# Altium schematic symbol library kmilo17pet-PIC16_Part2.SchLib: 1569 symbols (part 16 of 56)
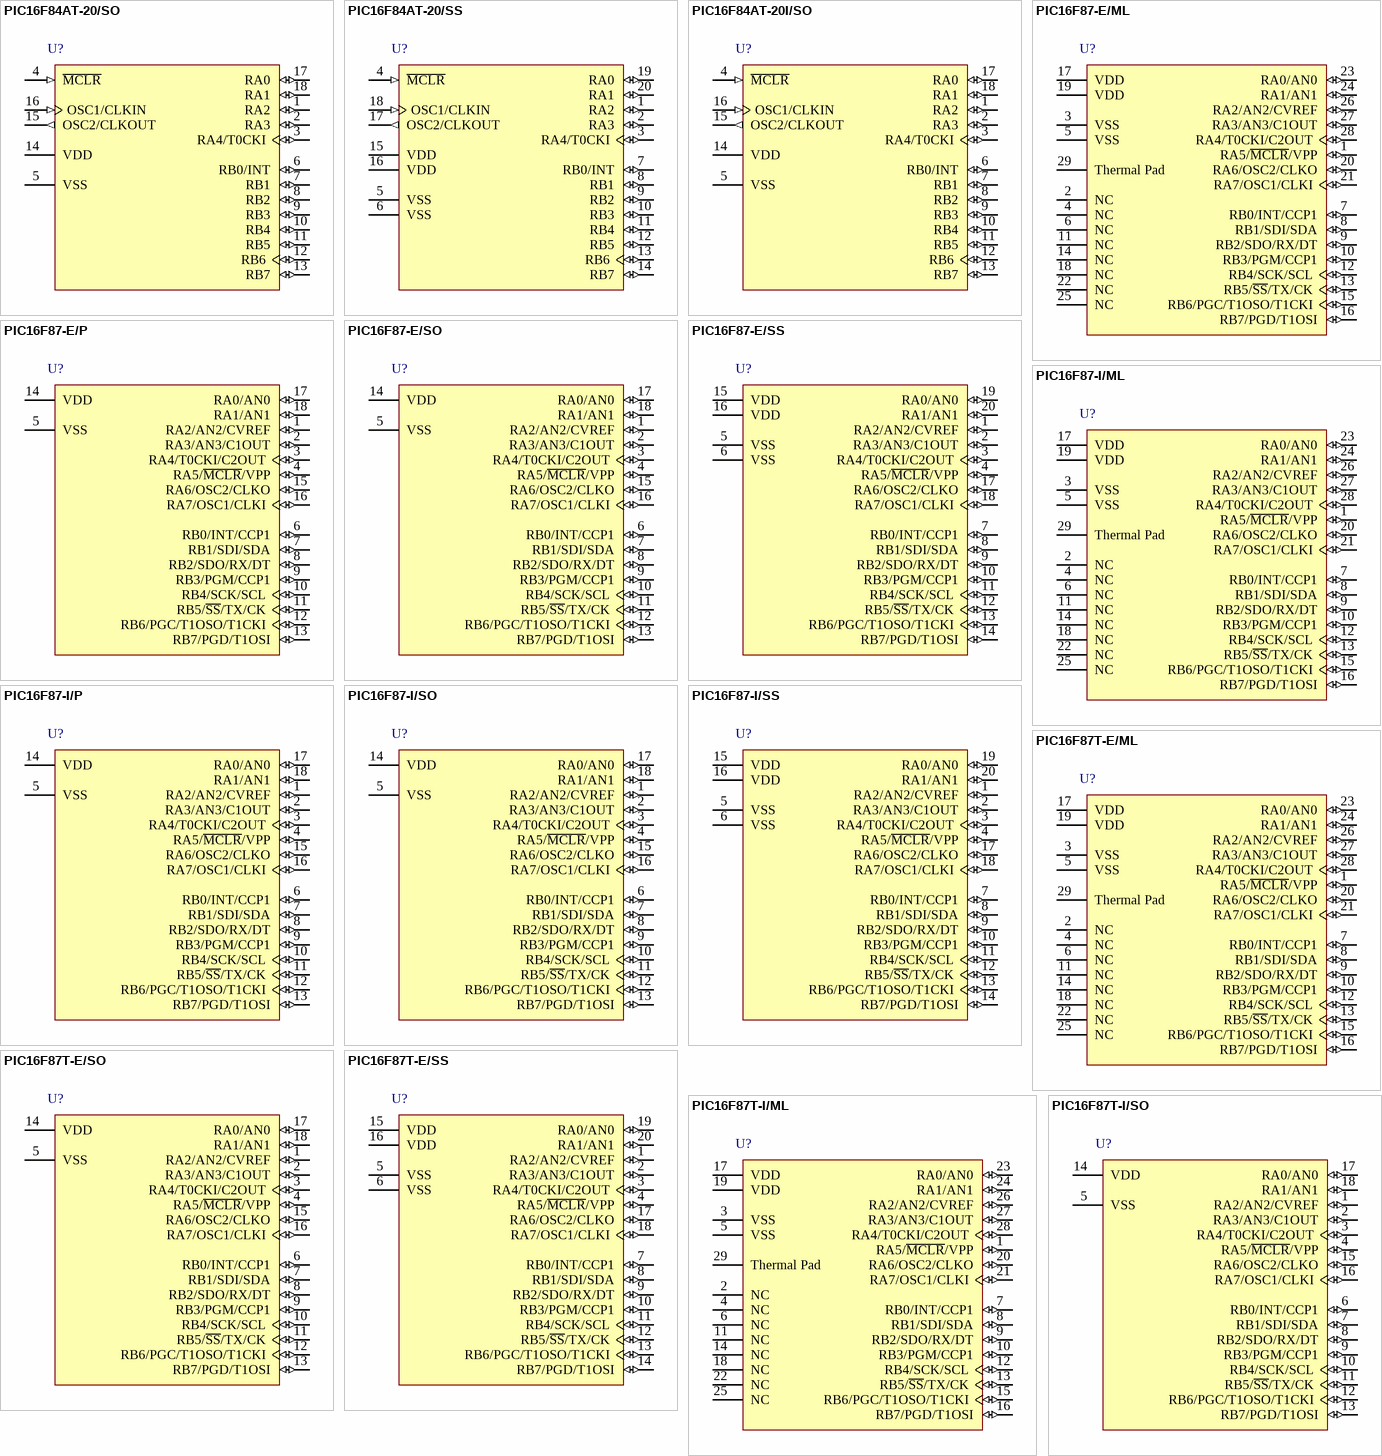
[diagram p140: symbols PIC16F84AT-20/SO to PIC16F87T-I/SO]

## PIC16F87T-E/ML
designator U?
Enhanced Flash Microcontroller with nanoWatt Technology, 4K (x14-Bit words) Program Memory, 624 Bytes Data Memory, 16 I/O pins, 28-Pin QFN, Standard VDD Range, Extended Temperature, Tape and Reel; Manufacturer: Microchip; PartNumber: PIC16F87T-E/ML; DatasheetVersion: revC, Jan-2005; PackageVersion: revBB, Aug-2009; PackageReference: QFN-ML28; PackageDescription: 28-Lead Plastic Quad Flat, No Lead Package (ML) - 6x6 mm Body [QFN] with 0.55 mm Contact Length; Supplier 1: Digi-Key; Supplier Part Number 1: PIC16F87T-E/ML-ND; Supplier 2: Mouser; Supplier Part Number 2: 579-PIC16F87T-E/ML; Code_JEDEC: MO-220; ComponentLink1Description: Manufacturer URL; ComponentLink1URL: http://www.microchip.com/; ComponentLink2Description: Datasheet; ComponentLink2URL: http://ww1.microchip.com/downloads/en/DeviceDoc/30487c.pdf; ComponentLink3Description: Package Specification; ComponentLink3URL: http://www.microchip.com/stellent/groups/techpub_sg/documents/packagingspec/en012702.pdf
footprint QFN-ML28_N (QFN, 28-Leads, Body 6x6mm, Pitch 0.65mm, Thermal Pad 4.2x4.2mm, IPC Medium Density)
footprint QFN-ML28_L (QFN, 28-Leads, Body 6x6mm, Pitch 0.65mm, Thermal Pad 4.2x4.2mm, IPC High Density)
footprint QFN-ML28_M (QFN, 28-Leads, Body 6x6mm, Pitch 0.65mm, Thermal Pad 4.2x4.2mm, IPC Low Density)
pins: 1 RA5/~{MCLR}/VPP (io), 2 NC, 3 VSS (power), 4 NC, 5 VSS (power), 6 NC, 7 RB0/INT/CCP1 (io), 8 RB1/SDI/SDA (io), 9 RB2/SDO/RX/DT (io), 10 RB3/PGM/CCP1 (io), 11 NC, 12 RB4/SCK/SCL (io), 13 RB5/~{SS}/TX/CK (io), 14 NC, 15 RB6/PGC/T1OSO/T1CKI (io), 16 RB7/PGD/T1OSI (io), 17 VDD (power), 18 NC, 19 VDD (power), 20 RA6/OSC2/CLKO (io), 21 RA7/OSC1/CLKI (io), 22 NC, 23 RA0/AN0 (io), 24 RA1/AN1 (io), 25 NC, 26 RA2/AN2/CVREF (io), 27 RA3/AN3/C1OUT (io), 28 RA4/T0CKI/C2OUT (io), 29 Thermal Pad

## PIC16F87T-E/SO
designator U?
Enhanced Flash Microcontroller with nanoWatt Technology, 4K (x14-Bit words) Program Memory, 624 Bytes Data Memory, 16 I/O pins, 18-Pin SOIC, Standard VDD Range, Extended Temperature, Tape and Reel; Manufacturer: Microchip; PartNumber: PIC16F87T-E/SO; DatasheetVersion: revC, Jan-2005; PackageVersion: revBB, Aug-2009; PackageReference: SOIC-SO18; PackageDescription: 18-Lead Plastic Small Outline (SO) - Wide 7.50mm Body [SOIC]; Supplier 1: Digi-Key; Supplier Part Number 1: PIC16F87T-E/SO-ND; Supplier 2: Mouser; Supplier Part Number 2: 579-PIC16F87T-E/SO; Code_JEDEC: MS-013; ComponentLink1Description: Manufacturer URL; ComponentLink1URL: http://www.microchip.com/; ComponentLink2Description: Datasheet; ComponentLink2URL: http://ww1.microchip.com/downloads/en/DeviceDoc/30487c.pdf; ComponentLink3Description: Package Specification; ComponentLink3URL: http://www.microchip.com/stellent/groups/techpub_sg/documents/packagingspec/en012702.pdf
footprint SOIC-SO18_N (SOIC, 18-Leads, Body 11.5x7.5mm, Pitch 1.27mm, IPC Medium Density)
footprint SOIC-SO18_L (SOIC, 18-Leads, Body 11.5x7.5mm, Pitch 1.27mm, IPC High Density)
footprint SOIC-SO18_M (SOIC, 18-Leads, Body 11.5x7.5mm, Pitch 1.27mm, IPC Low Density)
pins: 1 RA2/AN2/CVREF (io), 2 RA3/AN3/C1OUT (io), 3 RA4/T0CKI/C2OUT (io), 4 RA5/~{MCLR}/VPP (io), 5 VSS (power), 6 RB0/INT/CCP1 (io), 7 RB1/SDI/SDA (io), 8 RB2/SDO/RX/DT (io), 9 RB3/PGM/CCP1 (io), 10 RB4/SCK/SCL (io), 11 RB5/~{SS}/TX/CK (io), 12 RB6/PGC/T1OSO/T1CKI (io), 13 RB7/PGD/T1OSI (io), 14 VDD (power), 15 RA6/OSC2/CLKO (io), 16 RA7/OSC1/CLKI (io), 17 RA0/AN0 (io), 18 RA1/AN1 (io)

## PIC16F87T-E/SS
designator U?
Enhanced Flash Microcontroller with nanoWatt Technology, 4K (x14-Bit words) Program Memory, 624 Bytes Data Memory, 16 I/O pins, 20-Pin SSOP, Standard VDD Range, Extended Temperature, Tape and Reel; Manufacturer: Microchip; PartNumber: PIC16F87T-E/SS; DatasheetVersion: revC, Jan-2005; PackageVersion: revBB, Aug-2009; PackageReference: SSOP-SS20; PackageDescription: 20-Lead Plastic Shrink Small Outline (SS) - 5.3mm Body [SSOP]; Supplier 1: Digi-Key; Supplier Part Number 1: PIC16F87T-E/SS-ND; Supplier 2: Mouser; Supplier Part Number 2: 579-PIC16F87T-E/SS; Code_JEDEC: MO-150; ComponentLink1Description: Manufacturer URL; ComponentLink1URL: http://www.microchip.com/; ComponentLink2Description: Datasheet; ComponentLink2URL: http://ww1.microchip.com/downloads/en/DeviceDoc/30487c.pdf; ComponentLink3Description: Package Specification; ComponentLink3URL: http://www.microchip.com/stellent/groups/techpub_sg/documents/packagingspec/en012702.pdf
footprint SSOP-SS20_N (SOP, 20-Leads, Body 7.2x5.2mm, Pitch 0.65mm, IPC Medium Density)
footprint SSOP-SS20_L (SOP, 20-Leads, Body 7.2x5.2mm, Pitch 0.65mm, IPC High Density)
footprint SSOP-SS20_M (SOP, 20-Leads, Body 7.2x5.2mm, Pitch 0.65mm, IPC Low Density)
pins: 1 RA2/AN2/CVREF (io), 2 RA3/AN3/C1OUT (io), 3 RA4/T0CKI/C2OUT (io), 4 RA5/~{MCLR}/VPP (io), 5 VSS (power), 6 VSS (power), 7 RB0/INT/CCP1 (io), 8 RB1/SDI/SDA (io), 9 RB2/SDO/RX/DT (io), 10 RB3/PGM/CCP1 (io), 11 RB4/SCK/SCL (io), 12 RB5/~{SS}/TX/CK (io), 13 RB6/PGC/T1OSO/T1CKI (io), 14 RB7/PGD/T1OSI (io), 15 VDD (power), 16 VDD (power), 17 RA6/OSC2/CLKO (io), 18 RA7/OSC1/CLKI (io), 19 RA0/AN0 (io), 20 RA1/AN1 (io)

## PIC16F87T-I/ML
designator U?
Enhanced Flash Microcontroller with nanoWatt Technology, 4K (x14-Bit words) Program Memory, 624 Bytes Data Memory, 16 I/O pins, 28-Pin QFN, Standard VDD Range, Industrial Temperature, Tape and Reel; Manufacturer: Microchip; PartNumber: PIC16F87T-I/ML; Note: The CCP1 pin is determined by CCPMX in Configuration Word 1 register.; DatasheetVersion: revC, Jan-2005; PackageVersion: revBB, Aug-2009; PackageReference: QFN-ML28; PackageDescription: 28-Lead Plastic Quad Flat, No Lead Package (ML) - 6x6 mm Body [QFN] with 0.55 mm Contact Length; Supplier 1: Digi-Key; Supplier Part Number 1: PIC16F87T-I/ML-ND; Supplier 2: Mouser; Supplier Part Number 2: 579-PIC16F87T-I/ML; Code_JEDEC: MO-220; ComponentLink1Description: Manufacturer URL; ComponentLink1URL: http://www.microchip.com/; ComponentLink2Description: Datasheet; ComponentLink2URL: http://ww1.microchip.com/downloads/en/DeviceDoc/30487c.pdf; ComponentLink3Description: Package Specification; ComponentLink3URL: http://www.microchip.com/stellent/groups/techpub_sg/documents/packagingspec/en012702.pdf
footprint QFN-ML28_N (QFN, 28-Leads, Body 6x6mm, Pitch 0.65mm, Thermal Pad 4.2x4.2mm, IPC Medium Density)
footprint QFN-ML28_L (QFN, 28-Leads, Body 6x6mm, Pitch 0.65mm, Thermal Pad 4.2x4.2mm, IPC High Density)
footprint QFN-ML28_M (QFN, 28-Leads, Body 6x6mm, Pitch 0.65mm, Thermal Pad 4.2x4.2mm, IPC Low Density)
pins: 1 RA5/~{MCLR}/VPP (io), 2 NC, 3 VSS (power), 4 NC, 5 VSS (power), 6 NC, 7 RB0/INT/CCP1 (io), 8 RB1/SDI/SDA (io), 9 RB2/SDO/RX/DT (io), 10 RB3/PGM/CCP1 (io), 11 NC, 12 RB4/SCK/SCL (io), 13 RB5/~{SS}/TX/CK (io), 14 NC, 15 RB6/PGC/T1OSO/T1CKI (io), 16 RB7/PGD/T1OSI (io), 17 VDD (power), 18 NC, 19 VDD (power), 20 RA6/OSC2/CLKO (io), 21 RA7/OSC1/CLKI (io), 22 NC, 23 RA0/AN0 (io), 24 RA1/AN1 (io), 25 NC, 26 RA2/AN2/CVREF (io), 27 RA3/AN3/C1OUT (io), 28 RA4/T0CKI/C2OUT (io), 29 Thermal Pad

## PIC16F87T-I/SO
designator U?
Enhanced FLASH Microcontroller with nanoWatt Technology, 4K (x14-Bit words) FLASH, 368 Bytes RAM, 18-Pin SOIC, Standard VDD Range, Industrial Temperature, Tape and Reel; Manufacturer: Microchip; PartNumber: PIC16F87T-I/SO; Note: The CCP1 pin is determined by CCPMX in Configuration Word 1 register.; DatasheetVersion: revC, Jan-2005; PackageVersion: revBB, Aug-2009; PackageReference: SOIC-SO18; PackageDescription: 18-Lead Plastic Small Outline (SO) - Wide 7.50mm Body [SOIC]; Supplier 1: Digi-Key; Supplier Part Number 1: PIC16F87T-I/SO-ND; Supplier 2: Mouser; Supplier Part Number 2: 579-PIC16F87T-I/SO; Code_JEDEC: MS-013; ComponentLink1Description: Manufacturer URL; ComponentLink1URL: http://www.microchip.com/; ComponentLink2Description: Datasheet; ComponentLink2URL: http://ww1.microchip.com/downloads/en/DeviceDoc/30487c.pdf; ComponentLink3Description: Package Specification; ComponentLink3URL: http://www.microchip.com/stellent/groups/techpub_sg/documents/packagingspec/en012702.pdf
footprint SOIC-SO18_N (SOIC, 18-Leads, Body 11.5x7.5mm, Pitch 1.27mm, IPC Medium Density)
footprint SOIC-SO18_L (SOIC, 18-Leads, Body 11.5x7.5mm, Pitch 1.27mm, IPC High Density)
footprint SOIC-SO18_M (SOIC, 18-Leads, Body 11.5x7.5mm, Pitch 1.27mm, IPC Low Density)
pins: 1 RA2/AN2/CVREF (io), 2 RA3/AN3/C1OUT (io), 3 RA4/T0CKI/C2OUT (io), 4 RA5/~{MCLR}/VPP (io), 5 VSS (power), 6 RB0/INT/CCP1 (io), 7 RB1/SDI/SDA (io), 8 RB2/SDO/RX/DT (io), 9 RB3/PGM/CCP1 (io), 10 RB4/SCK/SCL (io), 11 RB5/~{SS}/TX/CK (io), 12 RB6/PGC/T1OSO/T1CKI (io), 13 RB7/PGD/T1OSI (io), 14 VDD (power), 15 RA6/OSC2/CLKO (io), 16 RA7/OSC1/CLKI (io), 17 RA0/AN0 (io), 18 RA1/AN1 (io)

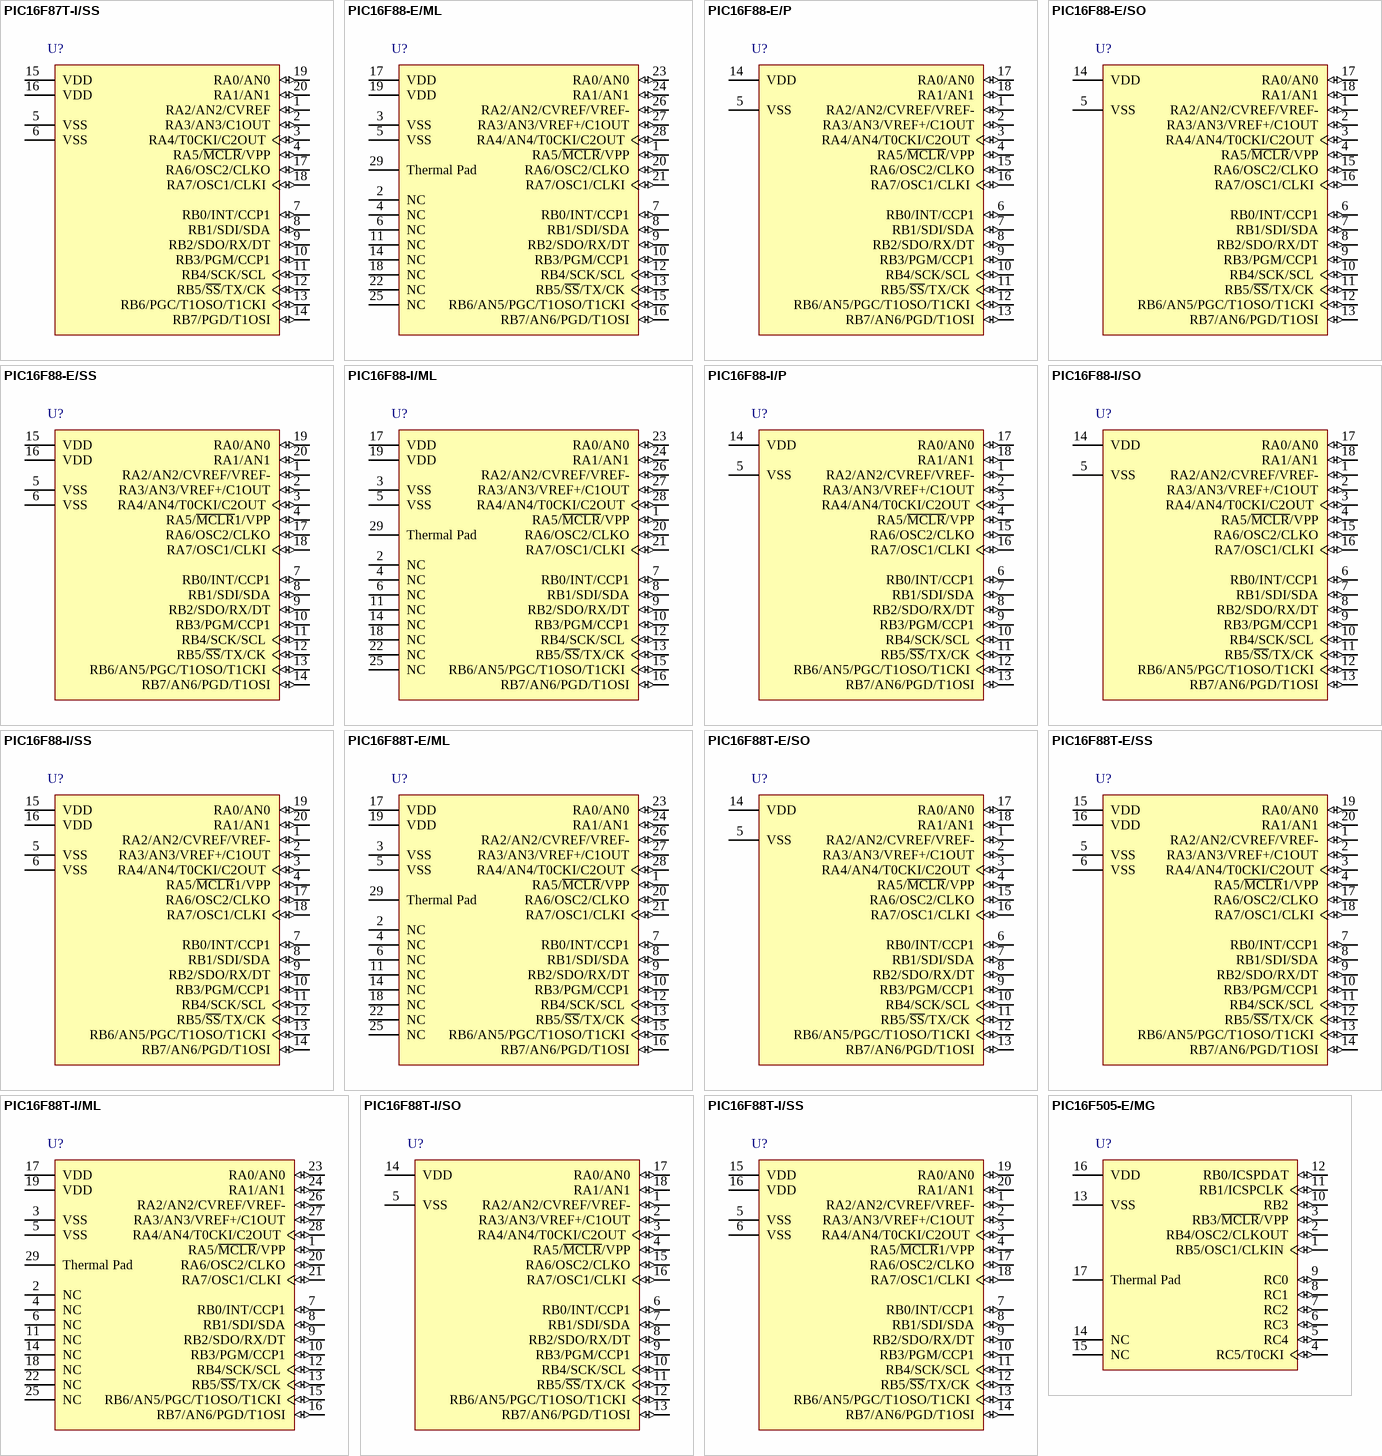
[diagram p31: symbols PIC16F87T-I/SS to PIC16F505-E/MG]

## PIC16F87T-I/SS
designator U?
Enhanced FLASH Microcontroller with nanoWatt Technology, 4K (x14-Bit words) FLASH, 368 Bytes RAM, 20-Pin SSOP, Standard VDD Range, Industrial Temperature, Tape and Reel; Manufacturer: Microchip; PartNumber: PIC16F87T-I/SS; DatasheetVersion: revC, Jan-2005; PackageVersion: revBB, Aug-2009; PackageReference: SSOP-SS20; PackageDescription: 20-Lead Plastic Shrink Small Outline (SS) - 5.3mm Body [SSOP]; Supplier 1: Digi-Key; Supplier Part Number 1: PIC16F87T-I/SS-ND; Supplier 2: Mouser; Supplier Part Number 2: 579-PIC16F87T-I/SS; Code_JEDEC: MO-150; ComponentLink1Description: Manufacturer URL; ComponentLink1URL: http://www.microchip.com/; ComponentLink2Description: Datasheet; ComponentLink2URL: http://ww1.microchip.com/downloads/en/DeviceDoc/30487c.pdf; ComponentLink3Description: Package Specification; ComponentLink3URL: http://www.microchip.com/stellent/groups/techpub_sg/documents/packagingspec/en012702.pdf
footprint SSOP-SS20_N (SOP, 20-Leads, Body 7.2x5.2mm, Pitch 0.65mm, IPC Medium Density)
footprint SSOP-SS20_L (SOP, 20-Leads, Body 7.2x5.2mm, Pitch 0.65mm, IPC High Density)
footprint SSOP-SS20_M (SOP, 20-Leads, Body 7.2x5.2mm, Pitch 0.65mm, IPC Low Density)
pins: 1 RA2/AN2/CVREF (io), 2 RA3/AN3/C1OUT (io), 3 RA4/T0CKI/C2OUT (io), 4 RA5/~{MCLR}/VPP (io), 5 VSS (power), 6 VSS (power), 7 RB0/INT/CCP1 (io), 8 RB1/SDI/SDA (io), 9 RB2/SDO/RX/DT (io), 10 RB3/PGM/CCP1 (io), 11 RB4/SCK/SCL (io), 12 RB5/~{SS}/TX/CK (io), 13 RB6/PGC/T1OSO/T1CKI (io), 14 RB7/PGD/T1OSI (io), 15 VDD (power), 16 VDD (power), 17 RA6/OSC2/CLKO (io), 18 RA7/OSC1/CLKI (io), 19 RA0/AN0 (io), 20 RA1/AN1 (io)

## PIC16F88-E/ML
designator U?
Enhanced FLASH Microcontroller with nanoWatt Technology, 10-Bit A/D, 4K (x14-Bit words) FLASH, 368 Bytes RAM, 28-Pin QFN, Standard VDD Range, Extended Temperature; Manufacturer: Microchip; PartNumber: PIC16F88-E/ML; Note: The CCP1 pin is determined by CCPMX in Configuration Word 1 register.; DatasheetVersion: revC, Jan-2005; PackageVersion: revBB, Aug-2009; PackageReference: QFN-ML28; PackageDescription: 28-Lead Plastic Quad Flat, No Lead Package (ML) - 6x6 mm Body [QFN] with 0.55 mm Contact Length; Supplier 1: Digi-Key; Supplier Part Number 1: PIC16F88-E/ML-ND; Supplier 2: Mouser; Supplier Part Number 2: 579-PIC16F88-E/ML; Code_JEDEC: MO-220; ComponentLink1Description: Manufacturer URL; ComponentLink1URL: http://www.microchip.com/; ComponentLink2Description: Datasheet; ComponentLink2URL: http://ww1.microchip.com/downloads/en/DeviceDoc/30487c.pdf; ComponentLink3Description: Package Specification; ComponentLink3URL: http://www.microchip.com/stellent/groups/techpub_sg/documents/packagingspec/en012702.pdf
footprint QFN-ML28_N (QFN, 28-Leads, Body 6x6mm, Pitch 0.65mm, Thermal Pad 4.2x4.2mm, IPC Medium Density)
footprint QFN-ML28_L (QFN, 28-Leads, Body 6x6mm, Pitch 0.65mm, Thermal Pad 4.2x4.2mm, IPC High Density)
footprint QFN-ML28_M (QFN, 28-Leads, Body 6x6mm, Pitch 0.65mm, Thermal Pad 4.2x4.2mm, IPC Low Density)
pins: 1 RA5/~{MCLR}/VPP (io), 2 NC, 3 VSS (power), 4 NC, 5 VSS (power), 6 NC, 7 RB0/INT/CCP1 (io), 8 RB1/SDI/SDA (io), 9 RB2/SDO/RX/DT (io), 10 RB3/PGM/CCP1 (io), 11 NC, 12 RB4/SCK/SCL (io), 13 RB5/~{SS}/TX/CK (io), 14 NC, 15 RB6/AN5/PGC/T1OSO/T1CKI (io), 16 RB7/AN6/PGD/T1OSI (io), 17 VDD (power), 18 NC, 19 VDD (power), 20 RA6/OSC2/CLKO (io), 21 RA7/OSC1/CLKI (io), 22 NC, 23 RA0/AN0 (io), 24 RA1/AN1 (io), 25 NC, 26 RA2/AN2/CVREF/VREF- (io), 27 RA3/AN3/VREF+/C1OUT (io), 28 RA4/AN4/T0CKI/C2OUT (io), 29 Thermal Pad

## PIC16F88-E/P
designator U?
Enhanced FLASH Microcontroller with nanoWatt Technology, 10-Bit A/D, 4K (x14-Bit words) FLASH, 368 Bytes RAM, 18-Pin PDIP, Standard VDD Range, Extended Temperature; Manufacturer: Microchip; PartNumber: PIC16F88-E/P; Note: The CCP1 pin is determined by CCPMX in Configuration Word 1 register.; DatasheetVersion: revC, Jan-2005; PackageVersion: revBB, Aug-2009; PackageReference: PDIP300-P18; PackageDescription: 18-Lead Plastic Dual In-Line (P) - 300 mil Body [PDIP]; Supplier 1: Digi-Key; Supplier Part Number 1: PIC16F88-E/P-ND; Supplier 2: Farnell; Supplier Part Number 2: 1816058; Supplier 3: Newark; Supplier Part Number 3: 92C4722; Supplier 4: Mouser; Supplier Part Number 4: 579-PIC16F88-E/P; Code_JEDEC: MS-001; ComponentLink1Description: Manufacturer URL; ComponentLink1URL: http://www.microchip.com/; ComponentLink2Description: Datasheet; ComponentLink2URL: http://ww1.microchip.com/downloads/en/DeviceDoc/30487c.pdf; ComponentLink3Description: Package Specification; ComponentLink3URL: http://www.microchip.com/stellent/groups/techpub_sg/documents/packagingspec/en012702.pdf
footprint PDIP300-P18 (DIP, 18-Leads, Row Spacing 7.62mm, Pitch 2.54mm, Body 22.9x6.6mm)
pins: 1 RA2/AN2/CVREF/VREF- (io), 2 RA3/AN3/VREF+/C1OUT (io), 3 RA4/AN4/T0CKI/C2OUT (io), 4 RA5/~{MCLR}/VPP (io), 5 VSS (power), 6 RB0/INT/CCP1 (io), 7 RB1/SDI/SDA (io), 8 RB2/SDO/RX/DT (io), 9 RB3/PGM/CCP1 (io), 10 RB4/SCK/SCL (io), 11 RB5/~{SS}/TX/CK (io), 12 RB6/AN5/PGC/T1OSO/T1CKI (io), 13 RB7/AN6/PGD/T1OSI (io), 14 VDD (power), 15 RA6/OSC2/CLKO (io), 16 RA7/OSC1/CLKI (io), 17 RA0/AN0 (io), 18 RA1/AN1 (io)

## PIC16F88-E/SO
designator U?
Enhanced FLASH Microcontroller with nanoWatt Technology, 10-Bit A/D, 4K (x14-Bit words) FLASH, 368 Bytes RAM, 18-Pin SOIC, Standard VDD Range, Extended Temperature; Manufacturer: Microchip; PartNumber: PIC16F88-E/SO; Note: The CCP1 pin is determined by CCPMX in Configuration Word 1 register.; DatasheetVersion: revC, Jan-2005; PackageVersion: revBB, Aug-2009; PackageReference: SOIC-SO18; PackageDescription: 18-Lead Plastic Small Outline (SO) - Wide 7.50mm Body [SOIC]; Supplier 1: Digi-Key; Supplier Part Number 1: PIC16F88-E/SO-ND; Supplier 2: Farnell; Supplier Part Number 2: 1847793; Supplier 3: Newark; Supplier Part Number 3: 92C4723; Supplier 4: Mouser; Supplier Part Number 4: 579-PIC16F88-E/SO; Code_JEDEC: MS-013; ComponentLink1Description: Manufacturer URL; ComponentLink1URL: http://www.microchip.com/; ComponentLink2Description: Datasheet; ComponentLink2URL: http://ww1.microchip.com/downloads/en/DeviceDoc/30487c.pdf; ComponentLink3Description: Package Specification; ComponentLink3URL: http://www.microchip.com/stellent/groups/techpub_sg/documents/packagingspec/en012702.pdf
footprint SOIC-SO18_N (SOIC, 18-Leads, Body 11.5x7.5mm, Pitch 1.27mm, IPC Medium Density)
footprint SOIC-SO18_L (SOIC, 18-Leads, Body 11.5x7.5mm, Pitch 1.27mm, IPC High Density)
footprint SOIC-SO18_M (SOIC, 18-Leads, Body 11.5x7.5mm, Pitch 1.27mm, IPC Low Density)
pins: 1 RA2/AN2/CVREF/VREF- (io), 2 RA3/AN3/VREF+/C1OUT (io), 3 RA4/AN4/T0CKI/C2OUT (io), 4 RA5/~{MCLR}/VPP (io), 5 VSS (power), 6 RB0/INT/CCP1 (io), 7 RB1/SDI/SDA (io), 8 RB2/SDO/RX/DT (io), 9 RB3/PGM/CCP1 (io), 10 RB4/SCK/SCL (io), 11 RB5/~{SS}/TX/CK (io), 12 RB6/AN5/PGC/T1OSO/T1CKI (io), 13 RB7/AN6/PGD/T1OSI (io), 14 VDD (power), 15 RA6/OSC2/CLKO (io), 16 RA7/OSC1/CLKI (io), 17 RA0/AN0 (io), 18 RA1/AN1 (io)

## PIC16F88-E/SS
designator U?
Enhanced FLASH Microcontroller with nanoWatt Technology, 10-Bit A/D, 4K (x14-Bit words) FLASH, 368 Bytes RAM, 20-Pin SSOP, Standard VDD Range, Extended Temperature; Manufacturer: Microchip; PartNumber: PIC16F88-E/SS; Note: The CCP1 pin is determined by CCPMX in Configuration Word 1 register.; DatasheetVersion: revC, Jan-2005; PackageVersion: revBB, Aug-2009; PackageReference: SSOP-SS20; PackageDescription: 20-Lead Plastic Shrink Small Outline (SS) - 5.3mm Body [SSOP]; Supplier 1: Digi-Key; Supplier Part Number 1: PIC16F88-E/SS-ND; Supplier 2: Mouser; Supplier Part Number 2: 579-PIC16F88-E/SS; Code_JEDEC: MO-150; ComponentLink1Description: Manufacturer URL; ComponentLink1URL: http://www.microchip.com/; ComponentLink2Description: Datasheet; ComponentLink2URL: http://ww1.microchip.com/downloads/en/DeviceDoc/30487c.pdf; ComponentLink3Description: Package Specification; ComponentLink3URL: http://www.microchip.com/stellent/groups/techpub_sg/documents/packagingspec/en012702.pdf
footprint SSOP-SS20_N (SOP, 20-Leads, Body 7.2x5.2mm, Pitch 0.65mm, IPC Medium Density)
footprint SSOP-SS20_L (SOP, 20-Leads, Body 7.2x5.2mm, Pitch 0.65mm, IPC High Density)
footprint SSOP-SS20_M (SOP, 20-Leads, Body 7.2x5.2mm, Pitch 0.65mm, IPC Low Density)
pins: 1 RA2/AN2/CVREF/VREF- (io), 2 RA3/AN3/VREF+/C1OUT (io), 3 RA4/AN4/T0CKI/C2OUT (io), 4 RA5/~{MCLR}1/VPP (io), 5 VSS (power), 6 VSS (power), 7 RB0/INT/CCP1 (io), 8 RB1/SDI/SDA (io), 9 RB2/SDO/RX/DT (io), 10 RB3/PGM/CCP1 (io), 11 RB4/SCK/SCL (io), 12 RB5/~{SS}/TX/CK (io), 13 RB6/AN5/PGC/T1OSO/T1CKI (io), 14 RB7/AN6/PGD/T1OSI (io), 15 VDD (power), 16 VDD (power), 17 RA6/OSC2/CLKO (io), 18 RA7/OSC1/CLKI (io), 19 RA0/AN0 (io), 20 RA1/AN1 (io)

## PIC16F88-I/ML
designator U?
Enhanced FLASH Microcontroller with nanoWatt Technology, 10-Bit A/D, 4K (x14-Bit words) FLASH, 368 Bytes RAM, 28-Pin QFN, Standard VDD Range, Industrial Temperature; Manufacturer: Microchip; PartNumber: PIC16F88-I/ML; Note: The CCP1 pin is determined by CCPMX in Configuration Word 1 register.; DatasheetVersion: revC, Jan-2005; PackageVersion: revBB, Aug-2009; PackageReference: QFN-ML28; PackageDescription: 28-Lead Plastic Quad Flat, No Lead Package (ML) - 6x6 mm Body [QFN] with 0.55 mm Contact Length; Supplier 1: Digi-Key; Supplier Part Number 1: PIC16F88-I/ML-ND; Supplier 2: Farnell; Supplier Part Number 2: 9761497; Supplier 3: Newark; Supplier Part Number 3: 92C4725; Supplier 4: Mouser; Supplier Part Number 4: 579-PIC16F88-I/ML; Code_JEDEC: MO-220; ComponentLink1Description: Manufacturer URL; ComponentLink1URL: http://www.microchip.com/; ComponentLink2Description: Datasheet; ComponentLink2URL: http://ww1.microchip.com/downloads/en/DeviceDoc/30487c.pdf; ComponentLink3Description: Package Specification; ComponentLink3URL: http://www.microchip.com/stellent/groups/techpub_sg/documents/packagingspec/en012702.pdf
footprint QFN-ML28_N (QFN, 28-Leads, Body 6x6mm, Pitch 0.65mm, Thermal Pad 4.2x4.2mm, IPC Medium Density)
footprint QFN-ML28_L (QFN, 28-Leads, Body 6x6mm, Pitch 0.65mm, Thermal Pad 4.2x4.2mm, IPC High Density)
footprint QFN-ML28_M (QFN, 28-Leads, Body 6x6mm, Pitch 0.65mm, Thermal Pad 4.2x4.2mm, IPC Low Density)
pins: 1 RA5/~{MCLR}/VPP (io), 2 NC, 3 VSS (power), 4 NC, 5 VSS (power), 6 NC, 7 RB0/INT/CCP1 (io), 8 RB1/SDI/SDA (io), 9 RB2/SDO/RX/DT (io), 10 RB3/PGM/CCP1 (io), 11 NC, 12 RB4/SCK/SCL (io), 13 RB5/~{SS}/TX/CK (io), 14 NC, 15 RB6/AN5/PGC/T1OSO/T1CKI (io), 16 RB7/AN6/PGD/T1OSI (io), 17 VDD (power), 18 NC, 19 VDD (power), 20 RA6/OSC2/CLKO (io), 21 RA7/OSC1/CLKI (io), 22 NC, 23 RA0/AN0 (io), 24 RA1/AN1 (io), 25 NC, 26 RA2/AN2/CVREF/VREF- (io), 27 RA3/AN3/VREF+/C1OUT (io), 28 RA4/AN4/T0CKI/C2OUT (io), 29 Thermal Pad

## PIC16F88-I/P
designator U?
Enhanced FLASH Microcontroller with nanoWatt Technology, 10-Bit A/D, 4K (x14-Bit words) FLASH, 368 Bytes RAM, 18-Pin PDIP, Standard VDD Range, Industrial Temperature; Manufacturer: Microchip; PartNumber: PIC16F88-I/P; Note: The CCP1 pin is determined by CCPMX in Configuration Word 1 register.; DatasheetVersion: revC, Jan-2005; PackageVersion: revBB, Aug-2009; PackageReference: PDIP300-P18; PackageDescription: 18-Lead Plastic Dual In-Line (P) - 300 mil Body [PDIP]; Supplier 1: Digi-Key; Supplier Part Number 1: PIC16F88-I/P-ND; Supplier 2: Farnell; Supplier Part Number 2: 9761500; Supplier 3: Farnell; Supplier Part Number 3: 1523967; Supplier 4: Newark; Supplier Part Number 4: 54K2830; Supplier 5: Mouser; Supplier Part Number 5: 579-PIC16F88-I/P; Code_JEDEC: MS-001; ComponentLink1Description: Manufacturer URL; ComponentLink1URL: http://www.microchip.com/; ComponentLink2Description: Datasheet; ComponentLink2URL: http://ww1.microchip.com/downloads/en/DeviceDoc/30487c.pdf; ComponentLink3Description: Package Specification; ComponentLink3URL: http://www.microchip.com/stellent/groups/techpub_sg/documents/packagingspec/en012702.pdf
footprint PDIP300-P18 (DIP, 18-Leads, Row Spacing 7.62mm, Pitch 2.54mm, Body 22.9x6.6mm)
pins: 1 RA2/AN2/CVREF/VREF- (io), 2 RA3/AN3/VREF+/C1OUT (io), 3 RA4/AN4/T0CKI/C2OUT (io), 4 RA5/~{MCLR}/VPP (io), 5 VSS (power), 6 RB0/INT/CCP1 (io), 7 RB1/SDI/SDA (io), 8 RB2/SDO/RX/DT (io), 9 RB3/PGM/CCP1 (io), 10 RB4/SCK/SCL (io), 11 RB5/~{SS}/TX/CK (io), 12 RB6/AN5/PGC/T1OSO/T1CKI (io), 13 RB7/AN6/PGD/T1OSI (io), 14 VDD (power), 15 RA6/OSC2/CLKO (io), 16 RA7/OSC1/CLKI (io), 17 RA0/AN0 (io), 18 RA1/AN1 (io)

## PIC16F88-I/SO
designator U?
Enhanced FLASH Microcontroller with nanoWatt Technology, 10-Bit A/D, 4K (x14-Bit words) FLASH, 368 Bytes RAM, 18-Pin SOIC, Standard VDD Range, Industrial Temperature; Manufacturer: Microchip; PartNumber: PIC16F88-I/SO; Note: The CCP1 pin is determined by CCPMX in Configuration Word 1 register.; DatasheetVersion: revC, Jan-2005; PackageVersion: revBB, Aug-2009; PackageReference: SOIC-SO18; PackageDescription: 18-Lead Plastic Small Outline (SO) - Wide 7.50mm Body [SOIC]; Supplier 1: Digi-Key; Supplier Part Number 1: PIC16F88-I/SO-ND; Supplier 2: Farnell; Supplier Part Number 2: 9761519; Supplier 3: Farnell; Supplier Part Number 3: 9761519MPKG; Supplier 4: Farnell; Supplier Part Number 4: 1660045; Supplier 5: Newark; Supplier Part Number 5: 61K3467; Supplier 6: Mouser; Supplier Part Number 6: 579-PIC16F88-I/SO; Code_JEDEC: MS-013; ComponentLink1Description: Manufacturer URL; ComponentLink1URL: http://www.microchip.com/; ComponentLink2Description: Datasheet; ComponentLink2URL: http://ww1.microchip.com/downloads/en/DeviceDoc/30487c.pdf; ComponentLink3Description: Package Specification; ComponentLink3URL: http://www.microchip.com/stellent/groups/techpub_sg/documents/packagingspec/en012702.pdf
footprint SOIC-SO18_N (SOIC, 18-Leads, Body 11.5x7.5mm, Pitch 1.27mm, IPC Medium Density)
footprint SOIC-SO18_L (SOIC, 18-Leads, Body 11.5x7.5mm, Pitch 1.27mm, IPC High Density)
footprint SOIC-SO18_M (SOIC, 18-Leads, Body 11.5x7.5mm, Pitch 1.27mm, IPC Low Density)
pins: 1 RA2/AN2/CVREF/VREF- (io), 2 RA3/AN3/VREF+/C1OUT (io), 3 RA4/AN4/T0CKI/C2OUT (io), 4 RA5/~{MCLR}/VPP (io), 5 VSS (power), 6 RB0/INT/CCP1 (io), 7 RB1/SDI/SDA (io), 8 RB2/SDO/RX/DT (io), 9 RB3/PGM/CCP1 (io), 10 RB4/SCK/SCL (io), 11 RB5/~{SS}/TX/CK (io), 12 RB6/AN5/PGC/T1OSO/T1CKI (io), 13 RB7/AN6/PGD/T1OSI (io), 14 VDD (power), 15 RA6/OSC2/CLKO (io), 16 RA7/OSC1/CLKI (io), 17 RA0/AN0 (io), 18 RA1/AN1 (io)

## PIC16F88-I/SS
designator U?
Enhanced FLASH Microcontroller with nanoWatt Technology, 10-Bit A/D, 4K (x14-Bit words) FLASH, 368 Bytes RAM, 20-Pin SSOP, Standard VDD Range, Industrial Temperature; Manufacturer: Microchip; PartNumber: PIC16F88-I/SS; DatasheetVersion: revC, Jan-2005; PackageVersion: revBB, Aug-2009; PackageReference: SSOP-SS20; PackageDescription: 20-Lead Plastic Shrink Small Outline (SS) - 5.3mm Body [SSOP]; Supplier 1: Digi-Key; Supplier Part Number 1: PIC16F88-I/SS-ND; Supplier 2: Farnell; Supplier Part Number 2: 1084336; Supplier 3: Newark; Supplier Part Number 3: 72K7299; Supplier 4: Mouser; Supplier Part Number 4: 579-PIC16F88-I/SS; Code_JEDEC: MO-150; ComponentLink1Description: Manufacturer URL; ComponentLink1URL: http://www.microchip.com/; ComponentLink2Description: Datasheet; ComponentLink2URL: http://ww1.microchip.com/downloads/en/DeviceDoc/30487c.pdf; ComponentLink3Description: Package Specification; ComponentLink3URL: http://www.microchip.com/stellent/groups/techpub_sg/documents/packagingspec/en012702.pdf
footprint SSOP-SS20_N (SOP, 20-Leads, Body 7.2x5.2mm, Pitch 0.65mm, IPC Medium Density)
footprint SSOP-SS20_L (SOP, 20-Leads, Body 7.2x5.2mm, Pitch 0.65mm, IPC High Density)
footprint SSOP-SS20_M (SOP, 20-Leads, Body 7.2x5.2mm, Pitch 0.65mm, IPC Low Density)
pins: 1 RA2/AN2/CVREF/VREF- (io), 2 RA3/AN3/VREF+/C1OUT (io), 3 RA4/AN4/T0CKI/C2OUT (io), 4 RA5/~{MCLR}1/VPP (io), 5 VSS (power), 6 VSS (power), 7 RB0/INT/CCP1 (io), 8 RB1/SDI/SDA (io), 9 RB2/SDO/RX/DT (io), 10 RB3/PGM/CCP1 (io), 11 RB4/SCK/SCL (io), 12 RB5/~{SS}/TX/CK (io), 13 RB6/AN5/PGC/T1OSO/T1CKI (io), 14 RB7/AN6/PGD/T1OSI (io), 15 VDD (power), 16 VDD (power), 17 RA6/OSC2/CLKO (io), 18 RA7/OSC1/CLKI (io), 19 RA0/AN0 (io), 20 RA1/AN1 (io)

## PIC16F88T-E/ML
designator U?
Enhanced Flash Microcontroller with nanoWatt Technology, 4K (x14-Bit words) Program Memory, 624 Bytes Data Memory, 16 I/O pins, 28-Pin QFN, Standard VDD Range, Extended Temperature, Tape and Reel; Manufacturer: Microchip; PartNumber: PIC16F88T-E/ML; DatasheetVersion: revC, Jan-2005; PackageVersion: revBB, Aug-2009; PackageReference: QFN-ML28; PackageDescription: 28-Lead Plastic Quad Flat, No Lead Package (ML) - 6x6 mm Body [QFN] with 0.55 mm Contact Length; Supplier 1: Digi-Key; Supplier Part Number 1: PIC16F88T-E/ML-ND; Supplier 2: Mouser; Supplier Part Number 2: 579-PIC16F88T-E/ML; Code_JEDEC: MO-220; ComponentLink1Description: Manufacturer URL; ComponentLink1URL: http://www.microchip.com/; ComponentLink2Description: Datasheet; ComponentLink2URL: http://ww1.microchip.com/downloads/en/DeviceDoc/30487c.pdf; ComponentLink3Description: Package Specification; ComponentLink3URL: http://www.microchip.com/stellent/groups/techpub_sg/documents/packagingspec/en012702.pdf
footprint QFN-ML28_N (QFN, 28-Leads, Body 6x6mm, Pitch 0.65mm, Thermal Pad 4.2x4.2mm, IPC Medium Density)
footprint QFN-ML28_L (QFN, 28-Leads, Body 6x6mm, Pitch 0.65mm, Thermal Pad 4.2x4.2mm, IPC High Density)
footprint QFN-ML28_M (QFN, 28-Leads, Body 6x6mm, Pitch 0.65mm, Thermal Pad 4.2x4.2mm, IPC Low Density)
pins: 1 RA5/~{MCLR}/VPP (io), 2 NC, 3 VSS (power), 4 NC, 5 VSS (power), 6 NC, 7 RB0/INT/CCP1 (io), 8 RB1/SDI/SDA (io), 9 RB2/SDO/RX/DT (io), 10 RB3/PGM/CCP1 (io), 11 NC, 12 RB4/SCK/SCL (io), 13 RB5/~{SS}/TX/CK (io), 14 NC, 15 RB6/AN5/PGC/T1OSO/T1CKI (io), 16 RB7/AN6/PGD/T1OSI (io), 17 VDD (power), 18 NC, 19 VDD (power), 20 RA6/OSC2/CLKO (io), 21 RA7/OSC1/CLKI (io), 22 NC, 23 RA0/AN0 (io), 24 RA1/AN1 (io), 25 NC, 26 RA2/AN2/CVREF/VREF- (io), 27 RA3/AN3/VREF+/C1OUT (io), 28 RA4/AN4/T0CKI/C2OUT (io), 29 Thermal Pad

## PIC16F88T-E/SO
designator U?
Enhanced Flash Microcontroller with nanoWatt Technology, 4K (x14-Bit words) Program Memory, 624 Bytes Data Memory, 16 I/O pins, 18-Pin SOIC, Standard VDD Range, Extended Temperature, Tape and Reel; Manufacturer: Microchip; PartNumber: PIC16F88T-E/SO; DatasheetVersion: revC, Jan-2005; PackageVersion: revBB, Aug-2009; PackageReference: SOIC-SO18; PackageDescription: 18-Lead Plastic Small Outline (SO) - Wide 7.50mm Body [SOIC]; Supplier 1: Digi-Key; Supplier Part Number 1: PIC16F88T-E/SO-ND; Supplier 2: Mouser; Supplier Part Number 2: 579-PIC16F88T-E/SO; Code_JEDEC: MS-013; ComponentLink1Description: Manufacturer URL; ComponentLink1URL: http://www.microchip.com/; ComponentLink2Description: Datasheet; ComponentLink2URL: http://ww1.microchip.com/downloads/en/DeviceDoc/30487c.pdf; ComponentLink3Description: Package Specification; ComponentLink3URL: http://www.microchip.com/stellent/groups/techpub_sg/documents/packagingspec/en012702.pdf
footprint SOIC-SO18_N (SOIC, 18-Leads, Body 11.5x7.5mm, Pitch 1.27mm, IPC Medium Density)
footprint SOIC-SO18_L (SOIC, 18-Leads, Body 11.5x7.5mm, Pitch 1.27mm, IPC High Density)
footprint SOIC-SO18_M (SOIC, 18-Leads, Body 11.5x7.5mm, Pitch 1.27mm, IPC Low Density)
pins: 1 RA2/AN2/CVREF/VREF- (io), 2 RA3/AN3/VREF+/C1OUT (io), 3 RA4/AN4/T0CKI/C2OUT (io), 4 RA5/~{MCLR}/VPP (io), 5 VSS (power), 6 RB0/INT/CCP1 (io), 7 RB1/SDI/SDA (io), 8 RB2/SDO/RX/DT (io), 9 RB3/PGM/CCP1 (io), 10 RB4/SCK/SCL (io), 11 RB5/~{SS}/TX/CK (io), 12 RB6/AN5/PGC/T1OSO/T1CKI (io), 13 RB7/AN6/PGD/T1OSI (io), 14 VDD (power), 15 RA6/OSC2/CLKO (io), 16 RA7/OSC1/CLKI (io), 17 RA0/AN0 (io), 18 RA1/AN1 (io)

## PIC16F88T-E/SS
designator U?
Enhanced Flash Microcontroller with nanoWatt Technology, 4K (x14-Bit words) Program Memory, 624 Bytes Data Memory, 16 I/O pins, 20-Pin SSOP, Standard VDD Range, Extended Temperature, Tape and Reel; Manufacturer: Microchip; PartNumber: PIC16F88T-E/SS; DatasheetVersion: revC, Jan-2005; PackageVersion: revBB, Aug-2009; PackageReference: SSOP-SS20; PackageDescription: 20-Lead Plastic Shrink Small Outline (SS) - 5.3mm Body [SSOP]; Supplier 1: Digi-Key; Supplier Part Number 1: PIC16F88T-E/SS-ND; Supplier 2: Mouser; Supplier Part Number 2: 579-PIC16F88T-E/SS; Code_JEDEC: MO-150; ComponentLink1Description: Manufacturer URL; ComponentLink1URL: http://www.microchip.com/; ComponentLink2Description: Datasheet; ComponentLink2URL: http://ww1.microchip.com/downloads/en/DeviceDoc/30487c.pdf; ComponentLink3Description: Package Specification; ComponentLink3URL: http://www.microchip.com/stellent/groups/techpub_sg/documents/packagingspec/en012702.pdf
footprint SSOP-SS20_N (SOP, 20-Leads, Body 7.2x5.2mm, Pitch 0.65mm, IPC Medium Density)
footprint SSOP-SS20_L (SOP, 20-Leads, Body 7.2x5.2mm, Pitch 0.65mm, IPC High Density)
footprint SSOP-SS20_M (SOP, 20-Leads, Body 7.2x5.2mm, Pitch 0.65mm, IPC Low Density)
pins: 1 RA2/AN2/CVREF/VREF- (io), 2 RA3/AN3/VREF+/C1OUT (io), 3 RA4/AN4/T0CKI/C2OUT (io), 4 RA5/~{MCLR}1/VPP (io), 5 VSS (power), 6 VSS (power), 7 RB0/INT/CCP1 (io), 8 RB1/SDI/SDA (io), 9 RB2/SDO/RX/DT (io), 10 RB3/PGM/CCP1 (io), 11 RB4/SCK/SCL (io), 12 RB5/~{SS}/TX/CK (io), 13 RB6/AN5/PGC/T1OSO/T1CKI (io), 14 RB7/AN6/PGD/T1OSI (io), 15 VDD (power), 16 VDD (power), 17 RA6/OSC2/CLKO (io), 18 RA7/OSC1/CLKI (io), 19 RA0/AN0 (io), 20 RA1/AN1 (io)

## PIC16F88T-I/ML
designator U?
Enhanced Flash Microcontroller with nanoWatt Technology, 4K (x14-Bit words) Program Memory, 624 Bytes Data Memory, 16 I/O pins, 28-Pin QFN, Standard VDD Range, Industrial Temperature, Tape and Reel; Manufacturer: Microchip; PartNumber: PIC16F88T-I/ML; Note: The CCP1 pin is determined by CCPMX in Configuration Word 1 register.; DatasheetVersion: revC, Jan-2005; PackageVersion: revBB, Aug-2009; PackageReference: QFN-ML28; PackageDescription: 28-Lead Plastic Quad Flat, No Lead Package (ML) - 6x6 mm Body [QFN] with 0.55 mm Contact Length; Supplier 1: Digi-Key; Supplier Part Number 1: PIC16F88T-I/ML-ND; Supplier 2: Mouser; Supplier Part Number 2: 579-PIC16F88T-I/ML; Code_JEDEC: MO-220; ComponentLink1Description: Manufacturer URL; ComponentLink1URL: http://www.microchip.com/; ComponentLink2Description: Datasheet; ComponentLink2URL: http://ww1.microchip.com/downloads/en/DeviceDoc/30487c.pdf; ComponentLink3Description: Package Specification; ComponentLink3URL: http://www.microchip.com/stellent/groups/techpub_sg/documents/packagingspec/en012702.pdf
footprint QFN-ML28_N (QFN, 28-Leads, Body 6x6mm, Pitch 0.65mm, Thermal Pad 4.2x4.2mm, IPC Medium Density)
footprint QFN-ML28_L (QFN, 28-Leads, Body 6x6mm, Pitch 0.65mm, Thermal Pad 4.2x4.2mm, IPC High Density)
footprint QFN-ML28_M (QFN, 28-Leads, Body 6x6mm, Pitch 0.65mm, Thermal Pad 4.2x4.2mm, IPC Low Density)
pins: 1 RA5/~{MCLR}/VPP (io), 2 NC, 3 VSS (power), 4 NC, 5 VSS (power), 6 NC, 7 RB0/INT/CCP1 (io), 8 RB1/SDI/SDA (io), 9 RB2/SDO/RX/DT (io), 10 RB3/PGM/CCP1 (io), 11 NC, 12 RB4/SCK/SCL (io), 13 RB5/~{SS}/TX/CK (io), 14 NC, 15 RB6/AN5/PGC/T1OSO/T1CKI (io), 16 RB7/AN6/PGD/T1OSI (io), 17 VDD (power), 18 NC, 19 VDD (power), 20 RA6/OSC2/CLKO (io), 21 RA7/OSC1/CLKI (io), 22 NC, 23 RA0/AN0 (io), 24 RA1/AN1 (io), 25 NC, 26 RA2/AN2/CVREF/VREF- (io), 27 RA3/AN3/VREF+/C1OUT (io), 28 RA4/AN4/T0CKI/C2OUT (io), 29 Thermal Pad

## PIC16F88T-I/SO
designator U?
Enhanced FLASH Microcontroller with nanoWatt Technology, 10-Bit A/D, 4K (x14-Bit words) FLASH, 368 Bytes RAM, 18-Pin SOIC, Standard VDD Range, Industrial Temperature, Tape and Reel; Manufacturer: Microchip; PartNumber: PIC16F88T-I/SO; Note: The CCP1 pin is determined by CCPMX in Configuration Word 1 register.; DatasheetVersion: revC, Jan-2005; PackageVersion: revBB, Aug-2009; PackageReference: SOIC-SO18; PackageDescription: 18-Lead Plastic Small Outline (SO) - Wide 7.50mm Body [SOIC]; Supplier 1: Digi-Key; Supplier Part Number 1: PIC16F88T-I/SO-ND; Supplier 2: Mouser; Supplier Part Number 2: 579-PIC16F88T-I/SO; Code_JEDEC: MS-013; ComponentLink1Description: Manufacturer URL; ComponentLink1URL: http://www.microchip.com/; ComponentLink2Description: Datasheet; ComponentLink2URL: http://ww1.microchip.com/downloads/en/DeviceDoc/30487c.pdf; ComponentLink3Description: Package Specification; ComponentLink3URL: http://www.microchip.com/stellent/groups/techpub_sg/documents/packagingspec/en012702.pdf
footprint SOIC-SO18_N (SOIC, 18-Leads, Body 11.5x7.5mm, Pitch 1.27mm, IPC Medium Density)
footprint SOIC-SO18_L (SOIC, 18-Leads, Body 11.5x7.5mm, Pitch 1.27mm, IPC High Density)
footprint SOIC-SO18_M (SOIC, 18-Leads, Body 11.5x7.5mm, Pitch 1.27mm, IPC Low Density)
pins: 1 RA2/AN2/CVREF/VREF- (io), 2 RA3/AN3/VREF+/C1OUT (io), 3 RA4/AN4/T0CKI/C2OUT (io), 4 RA5/~{MCLR}/VPP (io), 5 VSS (power), 6 RB0/INT/CCP1 (io), 7 RB1/SDI/SDA (io), 8 RB2/SDO/RX/DT (io), 9 RB3/PGM/CCP1 (io), 10 RB4/SCK/SCL (io), 11 RB5/~{SS}/TX/CK (io), 12 RB6/AN5/PGC/T1OSO/T1CKI (io), 13 RB7/AN6/PGD/T1OSI (io), 14 VDD (power), 15 RA6/OSC2/CLKO (io), 16 RA7/OSC1/CLKI (io), 17 RA0/AN0 (io), 18 RA1/AN1 (io)

## PIC16F88T-I/SS
designator U?
Enhanced FLASH Microcontroller with nanoWatt Technology, 10-Bit A/D, 4K (x14-Bit words) FLASH, 368 Bytes RAM, 20-Pin SSOP, Standard VDD Range, Industrial Temperature, Tape and Reel; Manufacturer: Microchip; PartNumber: PIC16F88T-I/SS; DatasheetVersion: revC, Jan-2005; PackageVersion: revBB, Aug-2009; PackageReference: SSOP-SS20; PackageDescription: 20-Lead Plastic Shrink Small Outline (SS) - 5.3mm Body [SSOP]; Supplier 1: Digi-Key; Supplier Part Number 1: PIC16F88T-I/SS-ND; Supplier 2: Mouser; Supplier Part Number 2: 579-PIC16F88T-I/SS; Code_JEDEC: MO-150; ComponentLink1Description: Manufacturer URL; ComponentLink1URL: http://www.microchip.com/; ComponentLink2Description: Datasheet; ComponentLink2URL: http://ww1.microchip.com/downloads/en/DeviceDoc/30487c.pdf; ComponentLink3Description: Package Specification; ComponentLink3URL: http://www.microchip.com/stellent/groups/techpub_sg/documents/packagingspec/en012702.pdf
footprint SSOP-SS20_N (SOP, 20-Leads, Body 7.2x5.2mm, Pitch 0.65mm, IPC Medium Density)
footprint SSOP-SS20_L (SOP, 20-Leads, Body 7.2x5.2mm, Pitch 0.65mm, IPC High Density)
footprint SSOP-SS20_M (SOP, 20-Leads, Body 7.2x5.2mm, Pitch 0.65mm, IPC Low Density)
pins: 1 RA2/AN2/CVREF/VREF- (io), 2 RA3/AN3/VREF+/C1OUT (io), 3 RA4/AN4/T0CKI/C2OUT (io), 4 RA5/~{MCLR}1/VPP (io), 5 VSS (power), 6 VSS (power), 7 RB0/INT/CCP1 (io), 8 RB1/SDI/SDA (io), 9 RB2/SDO/RX/DT (io), 10 RB3/PGM/CCP1 (io), 11 RB4/SCK/SCL (io), 12 RB5/~{SS}/TX/CK (io), 13 RB6/AN5/PGC/T1OSO/T1CKI (io), 14 RB7/AN6/PGD/T1OSI (io), 15 VDD (power), 16 VDD (power), 17 RA6/OSC2/CLKO (io), 18 RA7/OSC1/CLKI (io), 19 RA0/AN0 (io), 20 RA1/AN1 (io)

## PIC16F505-E/MG
designator U?
8-Bit Flash Microcontroller, 1K (x12-Bit words) Program Memory, 72 Bytes Data Memory, 11 I/O pins, 16-Pin QFN, Standard VDD Range, Extended Temperature; Manufacturer: Microchip; PartNumber: PIC16F505-E/MG; DatasheetVersion: revE, Aug-2009; PackageVersion: revBB, Aug-2009; PackageReference: QFN-MG16; PackageDescription: 16-Lead Plastic Quad Flat, No Lead Package (MG) - 3x3x0.9 mm Body [QFN]; Supplier 1: Digi-Key; Supplier Part Number 1: PIC16F505-E/MG-ND; Supplier 2: Mouser; Supplier Part Number 2: 579-PIC16F505-E/MG; ComponentLink1Description: Manufacturer URL; ComponentLink1URL: http://www.microchip.com/; ComponentLink2Description: Datasheet; ComponentLink2URL: http://ww1.microchip.com/downloads/en/DeviceDoc/41236E.pdf; ComponentLink3Description: Package Specification; ComponentLink3URL: http://www.microchip.com/stellent/groups/techpub_sg/documents/packagingspec/en012702.pdf
footprint QFN-MG16_N (QFN, 16-Leads, Body 3x3mm, Pitch 0.5mm, Thermal Pad 1.5x1.5mm, IPC Medium Density)
footprint QFN-MG16_L (QFN, 16-Leads, Body 3x3mm, Pitch 0.5mm, Thermal Pad 1.5x1.5mm, IPC High Density)
footprint QFN-MG16_M (QFN, 16-Leads, Body 3x3mm, Pitch 0.5mm, Thermal Pad 1.5x1.5mm, IPC Low Density)
pins: 1 RB5/OSC1/CLKIN (io), 2 RB4/OSC2/CLKOUT (io), 3 RB3/~{MCLR}/VPP (io), 4 RC5/T0CKI (io), 5 RC4 (io), 6 RC3 (io), 7 RC2 (io), 8 RC1 (io), 9 RC0 (io), 10 RB2 (io), 11 RB1/ICSPCLK (io), 12 RB0/ICSPDAT (io), 13 VSS (power), 14 NC, 15 NC, 16 VDD (power), 17 Thermal Pad

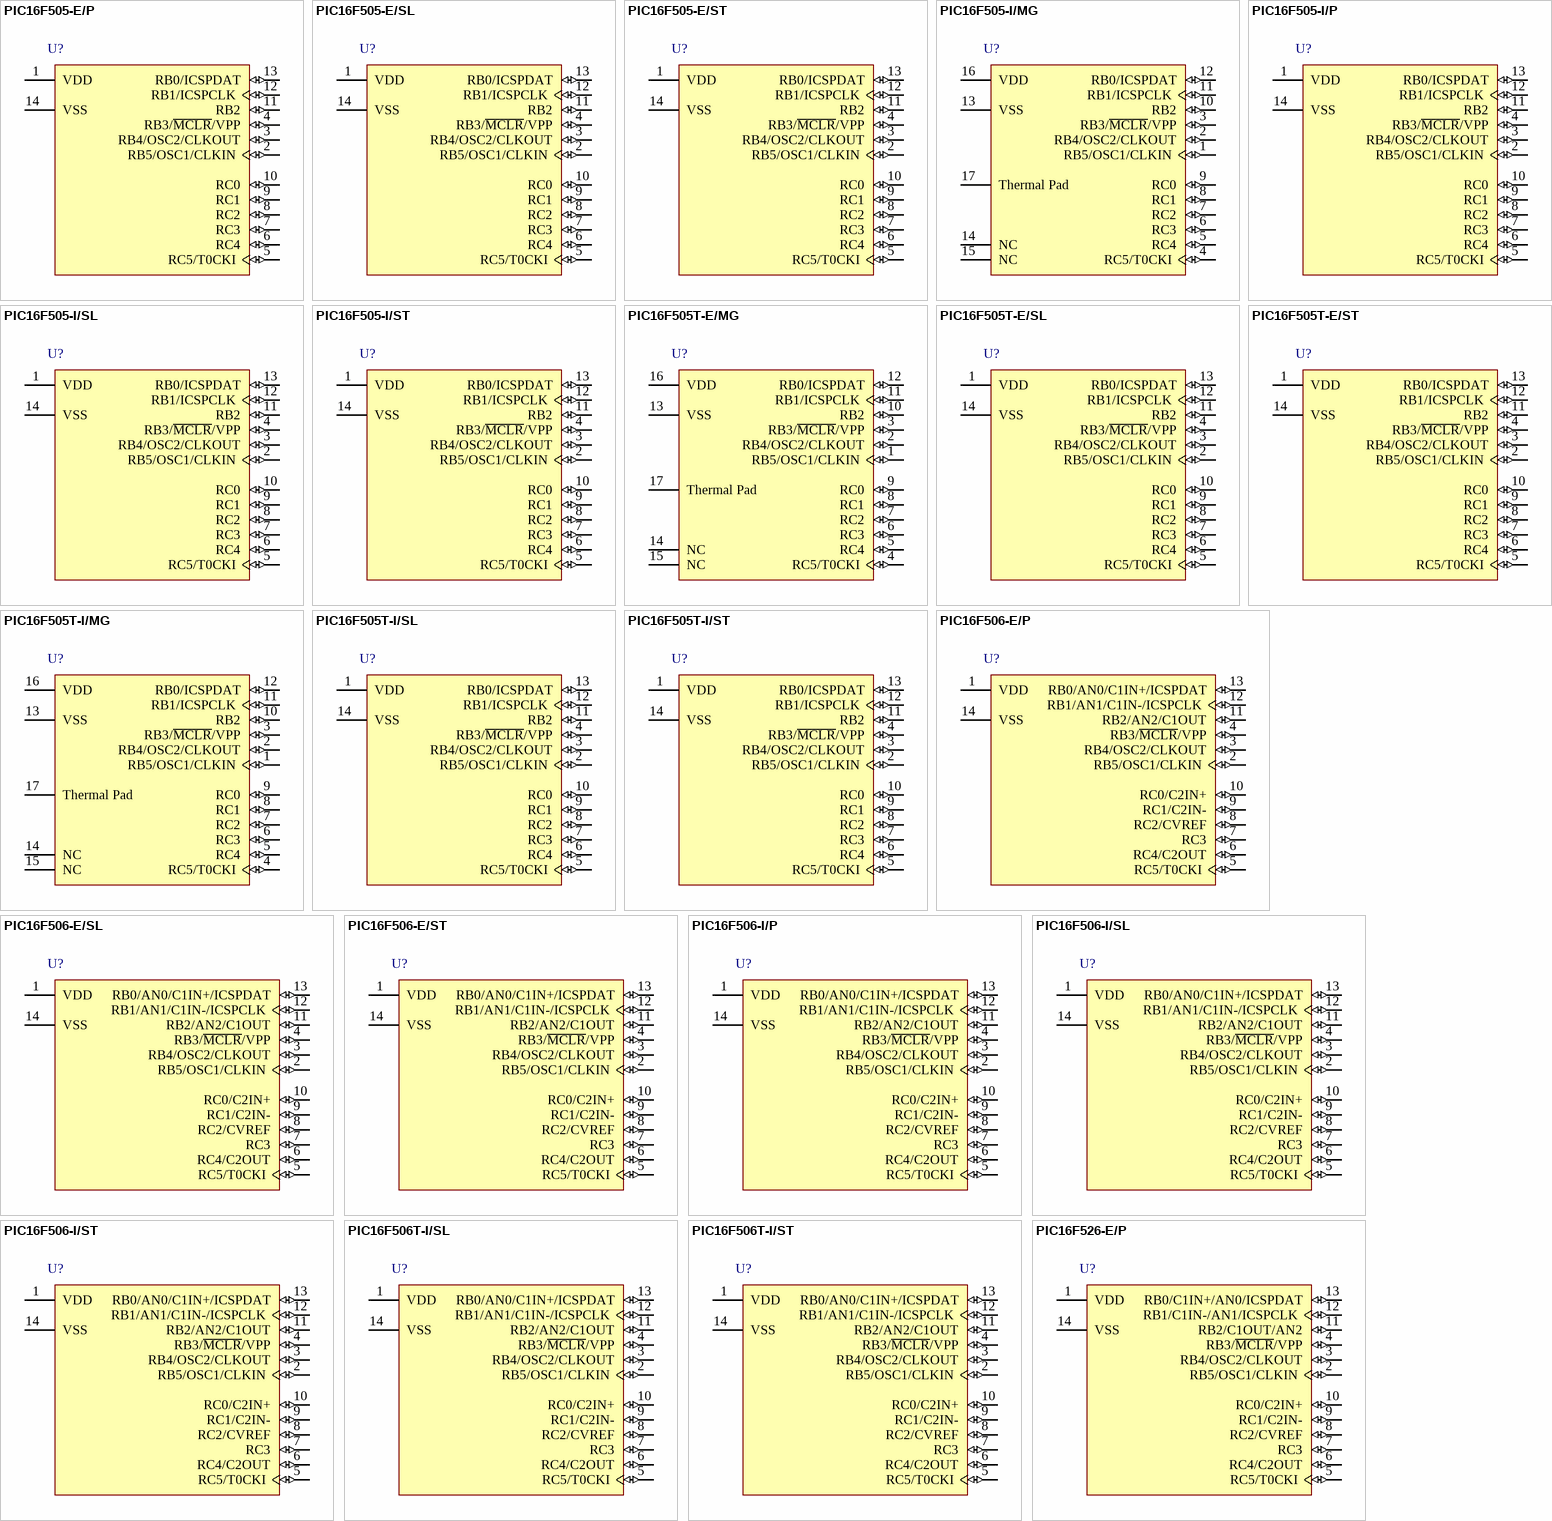
[diagram p32: symbols PIC16F505-E/P to PIC16F526-E/P]

## PIC16F505-E/P
designator U?
8-Bit Flash Microcontroller, 1K (x12-Bit words) Program Memory, 72 Bytes Data Memory, 11 I/O pins, 14-Pin PDIP, Standard VDD Range, Extended Temperature; Manufacturer: Microchip; PartNumber: PIC16F505-E/P; DatasheetVersion: revE, Aug-2009; PackageVersion: revBB, Aug-2009; PackageReference: PDIP300-P14; PackageDescription: 14-Lead Plastic Dual In-Line (P) - 300 mil Body [PDIP]; Supplier 1: Digi-Key; Supplier Part Number 1: PIC16F505-E/P-ND; Supplier 2: Mouser; Supplier Part Number 2: 579-PIC16F505-E/P; ComponentLink1Description: Manufacturer URL; ComponentLink1URL: http://www.microchip.com/; ComponentLink2Description: Datasheet; ComponentLink2URL: http://ww1.microchip.com/downloads/en/DeviceDoc/41236D.pdf; ComponentLink3Description: Package Specification; ComponentLink3URL: http://www.microchip.com/stellent/groups/techpub_sg/documents/packagingspec/en012702.pdf
footprint PDIP300-P14 (DIP, 14-Leads, Row Spacing 7.62mm, Pitch 2.54mm, Body 19.2x6.6mm)
pins: 1 VDD (power), 2 RB5/OSC1/CLKIN (io), 3 RB4/OSC2/CLKOUT (io), 4 RB3/~{MCLR}/VPP (io), 5 RC5/T0CKI (io), 6 RC4 (io), 7 RC3 (io), 8 RC2 (io), 9 RC1 (io), 10 RC0 (io), 11 RB2 (io), 12 RB1/ICSPCLK (io), 13 RB0/ICSPDAT (io), 14 VSS (power)

## PIC16F505-E/SL
designator U?
8-Bit Flash Microcontroller, 1K (x12-Bit words) Program Memory, 72 Bytes Data Memory, 11 I/O pins, 14-Pin SOIC, Standard VDD Range, Extended Temperature; Manufacturer: Microchip; PartNumber: PIC16F505-E/SL; DatasheetVersion: revE, Aug-2009; PackageVersion: revBB, Aug-2009; PackageReference: SOIC-SL14; PackageDescription: 14-Lead Plastic Small Outline (SL) - Narrow, 3.90mm Body [SOIC]; Supplier 1: Digi-Key; Supplier Part Number 1: PIC16F505-E/SL-ND; Supplier 2: Newark; Supplier Part Number 2: 89H0449; Supplier 3: Mouser; Supplier Part Number 3: 579-PIC16F505-E/SL; Code_JEDEC: MS-012-AB; Code_IPC: SOIC127P600-14; ComponentLink1Description: Manufacturer URL; ComponentLink1URL: http://www.microchip.com/; ComponentLink2Description: Datasheet; ComponentLink2URL: http://ww1.microchip.com/downloads/en/DeviceDoc/41236D.pdf; ComponentLink3Description: Package Specification; ComponentLink3URL: http://www.microchip.com/stellent/groups/techpub_sg/documents/packagingspec/en012702.pdf
footprint SOIC-SL14_N (SOIC, 14-Leads, Body 8.7x3.9mm, Pitch 1.27mm, IPC Medium Density)
footprint SOIC-SL14_L (SOIC, 14-Leads, Body 8.7x3.9mm, Pitch 1.27mm, IPC High Density)
footprint SOIC-SL14_M (SOIC, 14-Leads, Body 8.7x3.9mm, Pitch 1.27mm, IPC Low Density)
pins: 1 VDD (power), 2 RB5/OSC1/CLKIN (io), 3 RB4/OSC2/CLKOUT (io), 4 RB3/~{MCLR}/VPP (io), 5 RC5/T0CKI (io), 6 RC4 (io), 7 RC3 (io), 8 RC2 (io), 9 RC1 (io), 10 RC0 (io), 11 RB2 (io), 12 RB1/ICSPCLK (io), 13 RB0/ICSPDAT (io), 14 VSS (power)

## PIC16F505-E/ST
designator U?
8-Bit Flash Microcontroller, 1K (x12-Bit words) Program Memory, 72 Bytes Data Memory, 11 I/O pins, 14-Pin TSSOP, Standard VDD Range, Extended Temperature; Manufacturer: Microchip; PartNumber: PIC16F505-E/ST; DatasheetVersion: revE, Aug-2009; PackageVersion: revBB, Aug-2009; PackageReference: TSSOP-ST14; PackageDescription: 14-Lead Plastic Thin Shrink Small Outline (ST) - 4.4mm Body [TSSOP]; Supplier 1: Digi-Key; Supplier Part Number 1: PIC16F505-E/ST-ND; Supplier 2: Mouser; Supplier Part Number 2: 579-PIC16F505-E/ST; ComponentLink1Description: Manufacturer URL; ComponentLink1URL: http://www.microchip.com/; ComponentLink2Description: Datasheet; ComponentLink2URL: http://ww1.microchip.com/downloads/en/DeviceDoc/41236D.pdf; ComponentLink3Description: Package Specification; ComponentLink3URL: http://www.microchip.com/stellent/groups/techpub_sg/documents/packagingspec/en012702.pdf
footprint TSSOP-ST14_N (TSOP, 14-Leads, Body 5x4.4mm, Pitch 0.65mm, IPC Medium Density)
footprint TSSOP-ST14_L (TSOP, 14-Leads, Body 5x4.4mm, Pitch 0.65mm, IPC High Density)
footprint TSSOP-ST14_M (TSOP, 14-Leads, Body 5x4.4mm, Pitch 0.65mm, IPC Low Density)
pins: 1 VDD (power), 2 RB5/OSC1/CLKIN (io), 3 RB4/OSC2/CLKOUT (io), 4 RB3/~{MCLR}/VPP (io), 5 RC5/T0CKI (io), 6 RC4 (io), 7 RC3 (io), 8 RC2 (io), 9 RC1 (io), 10 RC0 (io), 11 RB2 (io), 12 RB1/ICSPCLK (io), 13 RB0/ICSPDAT (io), 14 VSS (power)

## PIC16F505-I/MG
designator U?
8-Bit Flash Microcontroller, 1K (x12-Bit words) Program Memory, 72 Bytes Data Memory, 11 I/O pins, 16-Pin QFN, Standard VDD Range, Industrial Temperature; Manufacturer: Microchip; PartNumber: PIC16F505-I/MG; DatasheetVersion: revE, Aug-2009; PackageVersion: revBB, Aug-2009; PackageReference: QFN-MG16; PackageDescription: 16-Lead Plastic Quad Flat, No Lead Package (MG) - 3x3x0.9 mm Body [QFN]; Supplier 1: Digi-Key; Supplier Part Number 1: PIC16F505-I/MG-ND; Supplier 2: Farnell; Supplier Part Number 2: 2318326; Supplier 3: Newark; Supplier Part Number 3: 63R7792; Supplier 4: Mouser; Supplier Part Number 4: 579-PIC16F505-I/MG; ComponentLink1Description: Manufacturer URL; ComponentLink1URL: http://www.microchip.com/; ComponentLink2Description: Datasheet; ComponentLink2URL: http://ww1.microchip.com/downloads/en/DeviceDoc/41236E.pdf; ComponentLink3Description: Package Specification; ComponentLink3URL: http://www.microchip.com/stellent/groups/techpub_sg/documents/packagingspec/en012702.pdf
footprint QFN-MG16_N (QFN, 16-Leads, Body 3x3mm, Pitch 0.5mm, Thermal Pad 1.5x1.5mm, IPC Medium Density)
footprint QFN-MG16_L (QFN, 16-Leads, Body 3x3mm, Pitch 0.5mm, Thermal Pad 1.5x1.5mm, IPC High Density)
footprint QFN-MG16_M (QFN, 16-Leads, Body 3x3mm, Pitch 0.5mm, Thermal Pad 1.5x1.5mm, IPC Low Density)
pins: 1 RB5/OSC1/CLKIN (io), 2 RB4/OSC2/CLKOUT (io), 3 RB3/~{MCLR}/VPP (io), 4 RC5/T0CKI (io), 5 RC4 (io), 6 RC3 (io), 7 RC2 (io), 8 RC1 (io), 9 RC0 (io), 10 RB2 (io), 11 RB1/ICSPCLK (io), 12 RB0/ICSPDAT (io), 13 VSS (power), 14 NC, 15 NC, 16 VDD (power), 17 Thermal Pad

## PIC16F505-I/P
designator U?
8-Bit Flash Microcontroller, 1K (x12-Bit words) Program Memory, 72 Bytes Data Memory, 11 I/O pins, 14-Pin PDIP, Standard VDD Range, Industrial Temperature; Manufacturer: Microchip; PartNumber: PIC16F505-I/P; DatasheetVersion: revE, Aug-2009; PackageVersion: revBB, Aug-2009; PackageReference: PDIP300-P14; PackageDescription: 14-Lead Plastic Dual In-Line (P) - 300 mil Body [PDIP]; Supplier 1: Digi-Key; Supplier Part Number 1: PIC16F505-I/P-ND; Supplier 2: Farnell; Supplier Part Number 2: 4057627; Supplier 3: Newark; Supplier Part Number 3: 96K3869; Supplier 4: Mouser; Supplier Part Number 4: 579-PIC16F505-I/P; ComponentLink1Description: Manufacturer URL; ComponentLink1URL: http://www.microchip.com/; ComponentLink2Description: Datasheet; ComponentLink2URL: http://ww1.microchip.com/downloads/en/DeviceDoc/41236D.pdf; ComponentLink3Description: Package Specification; ComponentLink3URL: http://www.microchip.com/stellent/groups/techpub_sg/documents/packagingspec/en012702.pdf
footprint PDIP300-P14 (DIP, 14-Leads, Row Spacing 7.62mm, Pitch 2.54mm, Body 19.2x6.6mm)
pins: 1 VDD (power), 2 RB5/OSC1/CLKIN (io), 3 RB4/OSC2/CLKOUT (io), 4 RB3/~{MCLR}/VPP (io), 5 RC5/T0CKI (io), 6 RC4 (io), 7 RC3 (io), 8 RC2 (io), 9 RC1 (io), 10 RC0 (io), 11 RB2 (io), 12 RB1/ICSPCLK (io), 13 RB0/ICSPDAT (io), 14 VSS (power)

## PIC16F505-I/SL
designator U?
8-Bit Flash Microcontroller, 1K (x12-Bit words) Program Memory, 72 Bytes Data Memory, 11 I/O pins, 14-Pin SOIC, Standard VDD Range, Industrial Temperature; Manufacturer: Microchip; PartNumber: PIC16F505-I/SL; DatasheetVersion: revE, Aug-2009; PackageVersion: revBB, Aug-2009; PackageReference: SOIC-SL14; PackageDescription: 14-Lead Plastic Small Outline (SL) - Narrow, 3.90mm Body [SOIC]; Supplier 1: Digi-Key; Supplier Part Number 1: PIC16F505-I/SL-ND; Supplier 2: Farnell; Supplier Part Number 2: 1212690; Supplier 3: Newark; Supplier Part Number 3: 89H0452; Supplier 4: Mouser; Supplier Part Number 4: 579-PIC16F505-I/SL; Code_JEDEC: MS-012-AB; Code_IPC: SOIC127P600-14; ComponentLink1Description: Manufacturer URL; ComponentLink1URL: http://www.microchip.com/; ComponentLink2Description: Datasheet; ComponentLink2URL: http://ww1.microchip.com/downloads/en/DeviceDoc/41236D.pdf; ComponentLink3Description: Package Specification; ComponentLink3URL: http://www.microchip.com/stellent/groups/techpub_sg/documents/packagingspec/en012702.pdf
footprint SOIC-SL14_N (SOIC, 14-Leads, Body 8.7x3.9mm, Pitch 1.27mm, IPC Medium Density)
footprint SOIC-SL14_L (SOIC, 14-Leads, Body 8.7x3.9mm, Pitch 1.27mm, IPC High Density)
footprint SOIC-SL14_M (SOIC, 14-Leads, Body 8.7x3.9mm, Pitch 1.27mm, IPC Low Density)
pins: 1 VDD (power), 2 RB5/OSC1/CLKIN (io), 3 RB4/OSC2/CLKOUT (io), 4 RB3/~{MCLR}/VPP (io), 5 RC5/T0CKI (io), 6 RC4 (io), 7 RC3 (io), 8 RC2 (io), 9 RC1 (io), 10 RC0 (io), 11 RB2 (io), 12 RB1/ICSPCLK (io), 13 RB0/ICSPDAT (io), 14 VSS (power)

## PIC16F505-I/ST
designator U?
8-Bit Flash Microcontroller, 1K (x12-Bit words) Program Memory, 72 Bytes Data Memory, 11 I/O pins, 14-Pin TSSOP, Standard VDD Range, Industrial Temperature; Manufacturer: Microchip; PartNumber: PIC16F505-I/ST; DatasheetVersion: revE, Aug-2009; PackageVersion: revBB, Aug-2009; PackageReference: TSSOP-ST14; PackageDescription: 14-Lead Plastic Thin Shrink Small Outline (ST) - 4.4mm Body [TSSOP]; Supplier 1: Digi-Key; Supplier Part Number 1: PIC16F505-I/ST-ND; Supplier 2: Farnell; Supplier Part Number 2: 1556187; Supplier 3: Newark; Supplier Part Number 3: 95M4386; Supplier 4: Newark; Supplier Part Number 4: 89H0453; Supplier 5: Mouser; Supplier Part Number 5: 579-PIC16F505-I/ST; ComponentLink1Description: Manufacturer URL; ComponentLink1URL: http://www.microchip.com/; ComponentLink2Description: Datasheet; ComponentLink2URL: http://ww1.microchip.com/downloads/en/DeviceDoc/41236D.pdf; ComponentLink3Description: Package Specification; ComponentLink3URL: http://www.microchip.com/stellent/groups/techpub_sg/documents/packagingspec/en012702.pdf
footprint TSSOP-ST14_N (TSOP, 14-Leads, Body 5x4.4mm, Pitch 0.65mm, IPC Medium Density)
footprint TSSOP-ST14_L (TSOP, 14-Leads, Body 5x4.4mm, Pitch 0.65mm, IPC High Density)
footprint TSSOP-ST14_M (TSOP, 14-Leads, Body 5x4.4mm, Pitch 0.65mm, IPC Low Density)
pins: 1 VDD (power), 2 RB5/OSC1/CLKIN (io), 3 RB4/OSC2/CLKOUT (io), 4 RB3/~{MCLR}/VPP (io), 5 RC5/T0CKI (io), 6 RC4 (io), 7 RC3 (io), 8 RC2 (io), 9 RC1 (io), 10 RC0 (io), 11 RB2 (io), 12 RB1/ICSPCLK (io), 13 RB0/ICSPDAT (io), 14 VSS (power)

## PIC16F505T-E/MG
designator U?
8-Bit Flash Microcontroller, 1K (x12-Bit words) Program Memory, 72 Bytes Data Memory, 11 I/O pins, 16-Pin QFN, Standard VDD Range, Extended Temperature, Tape and Reel; Manufacturer: Microchip; PartNumber: PIC16F505T-E/MG; DatasheetVersion: revE, Aug-2009; PackageVersion: revBB, Aug-2009; PackageReference: QFN-MG16; PackageDescription: 16-Lead Plastic Quad Flat, No Lead Package (MG) - 3x3x0.9 mm Body [QFN]; ComponentLink1Description: Manufacturer URL; ComponentLink1URL: http://www.microchip.com/; ComponentLink2Description: Datasheet; ComponentLink2URL: http://ww1.microchip.com/downloads/en/DeviceDoc/41236E.pdf; ComponentLink3Description: Package Specification; ComponentLink3URL: http://www.microchip.com/stellent/groups/techpub_sg/documents/packagingspec/en012702.pdf
footprint QFN-MG16_N (QFN, 16-Leads, Body 3x3mm, Pitch 0.5mm, Thermal Pad 1.5x1.5mm, IPC Medium Density)
footprint QFN-MG16_L (QFN, 16-Leads, Body 3x3mm, Pitch 0.5mm, Thermal Pad 1.5x1.5mm, IPC High Density)
footprint QFN-MG16_M (QFN, 16-Leads, Body 3x3mm, Pitch 0.5mm, Thermal Pad 1.5x1.5mm, IPC Low Density)
pins: 1 RB5/OSC1/CLKIN (io), 2 RB4/OSC2/CLKOUT (io), 3 RB3/~{MCLR}/VPP (io), 4 RC5/T0CKI (io), 5 RC4 (io), 6 RC3 (io), 7 RC2 (io), 8 RC1 (io), 9 RC0 (io), 10 RB2 (io), 11 RB1/ICSPCLK (io), 12 RB0/ICSPDAT (io), 13 VSS (power), 14 NC, 15 NC, 16 VDD (power), 17 Thermal Pad

## PIC16F505T-E/SL
designator U?
8-Bit Flash Microcontroller, 1K (x12-Bit words) Program Memory, 72 Bytes Data Memory, 11 I/O pins, 14-Pin SOIC, Standard VDD Range, Extended Temperature, Tape and Reel; Manufacturer: Microchip; PartNumber: PIC16F505T-E/SL; DatasheetVersion: revE, Aug-2009; PackageVersion: revBB, Aug-2009; PackageReference: SOIC-SL14; PackageDescription: 14-Lead Plastic Small Outline (SL) - Narrow, 3.90mm Body [SOIC]; Code_JEDEC: MS-012-AB; Code_IPC: SOIC127P600-14; ComponentLink1Description: Manufacturer URL; ComponentLink1URL: http://www.microchip.com/; ComponentLink2Description: Datasheet; ComponentLink2URL: http://ww1.microchip.com/downloads/en/DeviceDoc/41236D.pdf; ComponentLink3Description: Package Specification; ComponentLink3URL: http://www.microchip.com/stellent/groups/techpub_sg/documents/packagingspec/en012702.pdf
footprint SOIC-SL14_N (SOIC, 14-Leads, Body 8.7x3.9mm, Pitch 1.27mm, IPC Medium Density)
footprint SOIC-SL14_L (SOIC, 14-Leads, Body 8.7x3.9mm, Pitch 1.27mm, IPC High Density)
footprint SOIC-SL14_M (SOIC, 14-Leads, Body 8.7x3.9mm, Pitch 1.27mm, IPC Low Density)
pins: 1 VDD (power), 2 RB5/OSC1/CLKIN (io), 3 RB4/OSC2/CLKOUT (io), 4 RB3/~{MCLR}/VPP (io), 5 RC5/T0CKI (io), 6 RC4 (io), 7 RC3 (io), 8 RC2 (io), 9 RC1 (io), 10 RC0 (io), 11 RB2 (io), 12 RB1/ICSPCLK (io), 13 RB0/ICSPDAT (io), 14 VSS (power)